# Altium integrated library Cypress USB Controllers.IntLib: 169 symbols (part 14 of 16)
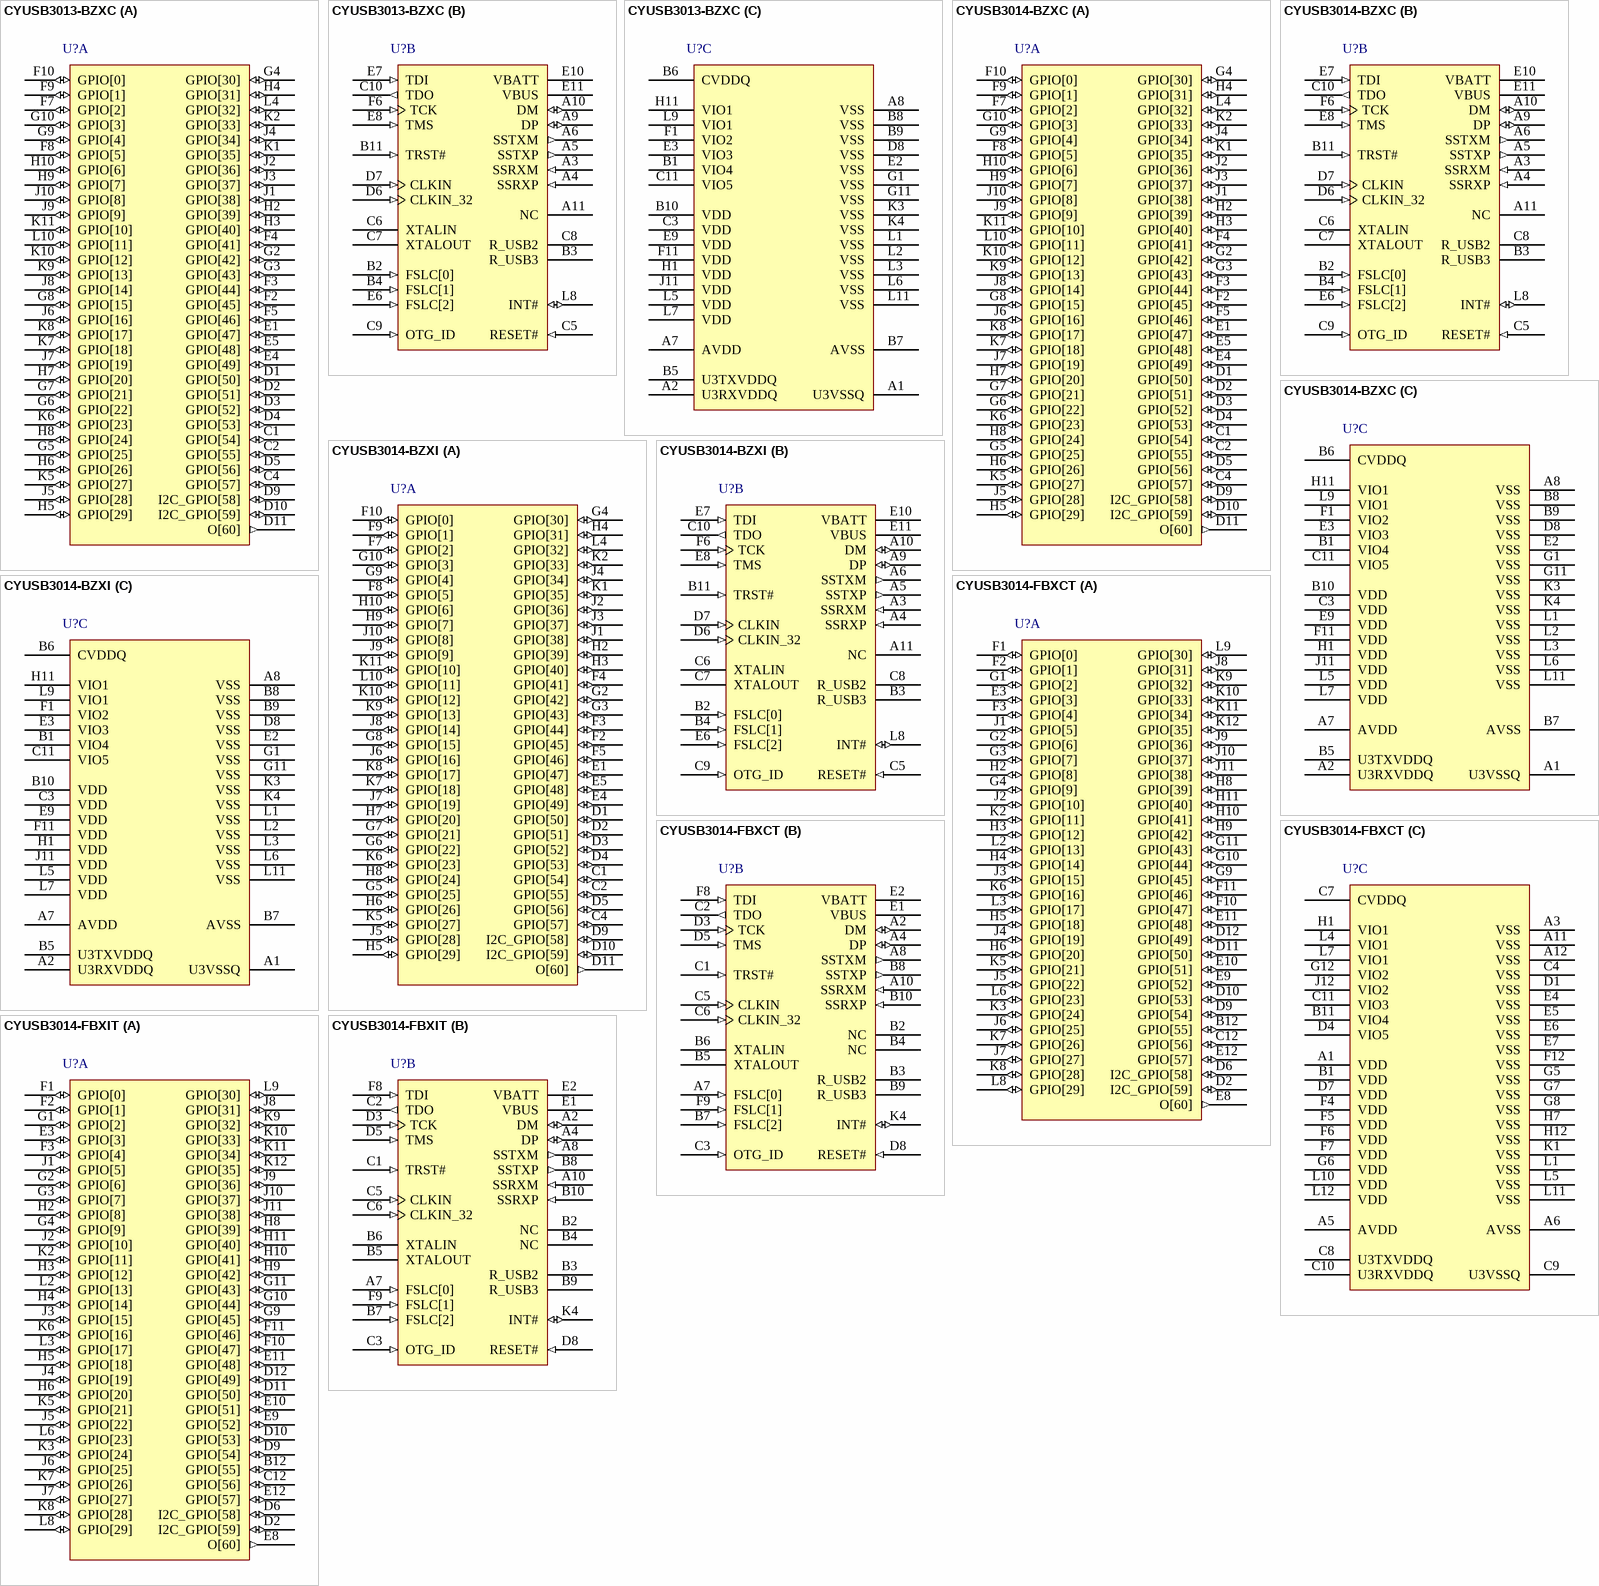
[diagram p35: symbols CYUSB3013-BZXC to CYUSB3014-FBXIT]

## CYUSB3014-BZXC
designator U?
EZ-USB(R) FX3: SuperSpeed USB Controller, 512 KB, 60 I/Os, 0 to 70 degC, 121-Pin FBGA (BZX121); Manufacturer: Cypress; PartNumber: CYUSB3014-BZXC; CPU Core: ARM926 EJ-S; Max. Operating Voltage (V): 1.25; Memory Architecture: SRAM; Memory Size (KB): 512; Min. Operating Voltage (V): 1.15; No. of I/Os: 60; DatasheetVersion: Rev. *O; PackageVersion: Rev. *D; PackageReference: BZX121; PackageDescription: 121-Ball FBGA, Body 10 x 10 mm, Pitch 0.8 mm; Supplier 1: Digi-Key; Supplier Part Number 1: 428-3182-ND; Supplier 2: Farnell; Supplier Part Number 2: 2355789; Supplier 3: Newark; Supplier Part Number 3: 54W7901; Supplier 4: Mouser; Supplier Part Number 4: 727-CYUSB3014-BZXC; Max. Operating Temp. (degreesC): 70; Min. Operating Temp. (degreesC): 0; RoHS: Pb-Free; Mounting Technology: Surface Mount; Code_JEDEC: PUB 95; ComponentLink1Description: Manufacturer URL; ComponentLink1URL: http://www.cypress.com/; ComponentLink2Description: Datasheet; ComponentLink2URL: http://www.cypress.com/?docID=49087; ComponentLink3Description: Package Specification; ComponentLink3URL: http://www.cypress.com/?docID=45795
footprint CYP-BZX121 (BGA, 121-Balls, Body 10x10mm, Pitch 0.8mm)
part A pins: C1 GPIO[54] (io), C2 GPIO[55] (io), C4 GPIO[57] (io), D1 GPIO[50] (io), D2 GPIO[51] (io), D3 GPIO[52] (io), D4 GPIO[53] (io), D5 GPIO[56] (io), D9 I2C_GPIO[58] (io), D10 I2C_GPIO[59] (io), D11 O[60] (out), E1 GPIO[47] (io), E4 GPIO[49] (io), E5 GPIO[48] (io), F2 GPIO[45] (io), F3 GPIO[44] (io), F4 GPIO[41] (io), F5 GPIO[46] (io), F7 GPIO[2] (io), F8 GPIO[5] (io), F9 GPIO[1] (io), F10 GPIO[0] (io), G2 GPIO[42] (io), G3 GPIO[43] (io), G4 GPIO[30] (io), G5 GPIO[25] (io), G6 GPIO[22] (io), G7 GPIO[21] (io), G8 GPIO[15] (io), G9 GPIO[4] (io), G10 GPIO[3] (io), H2 GPIO[39] (io), H3 GPIO[40] (io), H4 GPIO[31] (io), H5 GPIO[29] (io), H6 GPIO[26] (io), H7 GPIO[20] (io), H8 GPIO[24] (io), H9 GPIO[7] (io), H10 GPIO[6] (io), J1 GPIO[38] (io), J2 GPIO[36] (io), J3 GPIO[37] (io), J4 GPIO[34] (io), J5 GPIO[28] (io), J6 GPIO[16] (io), J7 GPIO[19] (io), J8 GPIO[14] (io), J9 GPIO[9] (io), J10 GPIO[8] (io), K1 GPIO[35] (io), K2 GPIO[33] (io), K5 GPIO[27] (io), K6 GPIO[23] (io), K7 GPIO[18] (io), K8 GPIO[17] (io), K9 GPIO[13] (io), K10 GPIO[12] (io), K11 GPIO[10] (io), L4 GPIO[32] (io), L10 GPIO[11] (io)
part B pins: A3 SSRXM (in), A4 SSRXP (in), A5 SSTXP (out), A6 SSTXM (out), A9 DP (io), A10 DM (io), A11 NC, B2 FSLC[0] (in), B3 R_USB3, B4 FSLC[1] (in), B11 TRST# (in), C5 RESET# (in), C6 XTALIN, C7 XTALOUT, C8 R_USB2, C9 OTG_ID (in), C10 TDO (out), D6 CLKIN_32 (in), D7 CLKIN (in), E6 FSLC[2] (in), E7 TDI (in), E8 TMS (in), E10 VBATT (power), E11 VBUS (power), F6 TCK (in), L8 INT# (io)
part C pins: A1 U3VSSQ (power), A2 U3RXVDDQ (power), A7 AVDD (power), A8 VSS (power), B1 VIO4 (power), B5 U3TXVDDQ (power), B6 CVDDQ (power), B7 AVSS (power), B8 VSS (power), B9 VSS (power), B10 VDD (power), C3 VDD (power), C11 VIO5 (power), D8 VSS (power), E2 VSS (power), E3 VIO3 (power), E9 VDD (power), F1 VIO2 (power), F11 VDD (power), G1 VSS (power), G11 VSS (power), H1 VDD (power), H11 VIO1 (power), J11 VDD (power), K3 VSS (power), K4 VSS (power), L1 VSS (power), L2 VSS (power), L3 VSS (power), L5 VDD (power), L6 VSS (power), L7 VDD (power), L9 VIO1 (power), L11 VSS (power)

## CYUSB3014-BZXI
designator U?
EZ-USB(R) FX3: SuperSpeed USB Controller, 512 KB, 60 I/Os, -40 to 85 degC, 121-Pin FBGA (BZX121); Manufacturer: Cypress; PartNumber: CYUSB3014-BZXI; CPU Core: ARM926 EJ-S; Max. Operating Voltage (V): 1.25; Memory Architecture: SRAM; Memory Size (KB): 512; Min. Operating Voltage (V): 1.15; No. of I/Os: 60; DatasheetVersion: Rev. *O; PackageVersion: Rev. *D; PackageReference: BZX121; PackageDescription: 121-Ball FBGA, Body 10 x 10 mm, Pitch 0.8 mm; Supplier 1: Digi-Key; Supplier Part Number 1: 428-3130-ND; Supplier 2: Farnell; Supplier Part Number 2: 2077374; Supplier 3: Newark; Supplier Part Number 3: 79T4687; Supplier 4: Newark; Supplier Part Number 4: 89T5318; Supplier 5: Mouser; Supplier Part Number 5: 727-CYUSB3014-BZXI; Max. Operating Temp. (degreesC): 85; Min. Operating Temp. (degreesC): -40; RoHS: Pb-Free; Mounting Technology: Surface Mount; Code_JEDEC: PUB 95; ComponentLink1Description: Manufacturer URL; ComponentLink1URL: http://www.cypress.com/; ComponentLink2Description: Datasheet; ComponentLink2URL: http://www.cypress.com/?docID=49087; ComponentLink3Description: Package Specification; ComponentLink3URL: http://www.cypress.com/?docID=45795
footprint CYP-BZX121 (BGA, 121-Balls, Body 10x10mm, Pitch 0.8mm)
part A pins: C1 GPIO[54] (io), C2 GPIO[55] (io), C4 GPIO[57] (io), D1 GPIO[50] (io), D2 GPIO[51] (io), D3 GPIO[52] (io), D4 GPIO[53] (io), D5 GPIO[56] (io), D9 I2C_GPIO[58] (io), D10 I2C_GPIO[59] (io), D11 O[60] (out), E1 GPIO[47] (io), E4 GPIO[49] (io), E5 GPIO[48] (io), F2 GPIO[45] (io), F3 GPIO[44] (io), F4 GPIO[41] (io), F5 GPIO[46] (io), F7 GPIO[2] (io), F8 GPIO[5] (io), F9 GPIO[1] (io), F10 GPIO[0] (io), G2 GPIO[42] (io), G3 GPIO[43] (io), G4 GPIO[30] (io), G5 GPIO[25] (io), G6 GPIO[22] (io), G7 GPIO[21] (io), G8 GPIO[15] (io), G9 GPIO[4] (io), G10 GPIO[3] (io), H2 GPIO[39] (io), H3 GPIO[40] (io), H4 GPIO[31] (io), H5 GPIO[29] (io), H6 GPIO[26] (io), H7 GPIO[20] (io), H8 GPIO[24] (io), H9 GPIO[7] (io), H10 GPIO[6] (io), J1 GPIO[38] (io), J2 GPIO[36] (io), J3 GPIO[37] (io), J4 GPIO[34] (io), J5 GPIO[28] (io), J6 GPIO[16] (io), J7 GPIO[19] (io), J8 GPIO[14] (io), J9 GPIO[9] (io), J10 GPIO[8] (io), K1 GPIO[35] (io), K2 GPIO[33] (io), K5 GPIO[27] (io), K6 GPIO[23] (io), K7 GPIO[18] (io), K8 GPIO[17] (io), K9 GPIO[13] (io), K10 GPIO[12] (io), K11 GPIO[10] (io), L4 GPIO[32] (io), L10 GPIO[11] (io)
part B pins: A3 SSRXM (in), A4 SSRXP (in), A5 SSTXP (out), A6 SSTXM (out), A9 DP (io), A10 DM (io), A11 NC, B2 FSLC[0] (in), B3 R_USB3, B4 FSLC[1] (in), B11 TRST# (in), C5 RESET# (in), C6 XTALIN, C7 XTALOUT, C8 R_USB2, C9 OTG_ID (in), C10 TDO (out), D6 CLKIN_32 (in), D7 CLKIN (in), E6 FSLC[2] (in), E7 TDI (in), E8 TMS (in), E10 VBATT (power), E11 VBUS (power), F6 TCK (in), L8 INT# (io)
part C pins: A1 U3VSSQ (power), A2 U3RXVDDQ (power), A7 AVDD (power), A8 VSS (power), B1 VIO4 (power), B5 U3TXVDDQ (power), B6 CVDDQ (power), B7 AVSS (power), B8 VSS (power), B9 VSS (power), B10 VDD (power), C3 VDD (power), C11 VIO5 (power), D8 VSS (power), E2 VSS (power), E3 VIO3 (power), E9 VDD (power), F1 VIO2 (power), F11 VDD (power), G1 VSS (power), G11 VSS (power), H1 VDD (power), H11 VIO1 (power), J11 VDD (power), K3 VSS (power), K4 VSS (power), L1 VSS (power), L2 VSS (power), L3 VSS (power), L5 VDD (power), L6 VSS (power), L7 VDD (power), L9 VIO1 (power), L11 VSS (power)

## CYUSB3014-FBXCT
designator U?
EZ-USB(R) FX3: SuperSpeed USB Controller, 512 KB, 60 I/Os, 0 to 70 degC, 131-Pin WLCSP (FBX131), Tape and Reel; Manufacturer: Cypress; PartNumber: CYUSB3014-FBXCT; CPU Core: ARM926 EJ-S; Max. Operating Voltage (V): 1.25; Memory Architecture: SRAM; Memory Size (KB): 512; Min. Operating Voltage (V): 1.15; No. of I/Os: 60; DatasheetVersion: Rev. *O; PackageVersion: Rev. *C; PackageReference: FBX131; PackageDescription: 131-Ball Wafer Level Chip Scale Package, Body 5.099 x 4.695 mm, Pitch 0.4 mm; Supplier 1: Digi-Key; Supplier Part Number 1: CYUSB3014-FBXCT-ND; Supplier 2: Newark; Supplier Part Number 2: 08X4451; Supplier 3: Mouser; Supplier Part Number 3: 727-CYUSB3014-FBXCT; Max. Operating Temp. (degreesC): 70; Min. Operating Temp. (degreesC): 0; Packing: Tape and Reel; RoHS: Pb-Free; Mounting Technology: Surface Mount; Code_JEDEC: Publication 95; ComponentLink1Description: Manufacturer URL; ComponentLink1URL: http://www.cypress.com/; ComponentLink2Description: Datasheet; ComponentLink2URL: http://www.cypress.com/?docID=49087; ComponentLink3Description: Package Specification; ComponentLink3URL: http://www.cypress.com/?docID=46736
footprint CYP-FBX131 (BGA, 131-Balls, Body 5.1x4.7mm, Pitch 0.4mm)
part A pins: B12 GPIO[55] (io), C12 GPIO[56] (io), D2 I2C_GPIO[59] (io) "I2C_SDA", D6 I2C_GPIO[58] (io) "I2C_SCL", D9 GPIO[54] (io), D10 GPIO[53] (io), D11 GPIO[50] (io), D12 GPIO[49] (io), E3 GPIO[3] (io), E8 O[60] (out), E9 GPIO[52] (io), E10 GPIO[51] (io), E11 GPIO[48] (io), E12 GPIO[57] (io), F1 GPIO[0] (io), F2 GPIO[1] (io), F3 GPIO[4] (io), F10 GPIO[47] (io), F11 GPIO[46] (io), G1 GPIO[2] (io), G2 GPIO[6] (io), G3 GPIO[7] (io), G4 GPIO[9] (io), G9 GPIO[45] (io), G10 GPIO[44] (io), G11 GPIO[43] (io), H2 GPIO[8] (io), H3 GPIO[12] (io), H4 GPIO[14] (io), H5 GPIO[18] (io), H6 GPIO[20] (io), H8 GPIO[39] (io), H9 GPIO[42] (io), H10 GPIO[41] (io), H11 GPIO[40] (io), J1 GPIO[5] (io), J2 GPIO[10] (io), J3 GPIO[15] (io), J4 GPIO[19] (io), J5 GPIO[22] (io), J6 GPIO[25] (io), J7 GPIO[27] (io), J8 GPIO[31] (io), J9 GPIO[36] (io), J10 GPIO[37] (io), J11 GPIO[38] (io), K2 GPIO[11] (io), K3 GPIO[24] (io), K5 GPIO[21] (io), K6 GPIO[16] (io), K7 GPIO[26] (io), K8 GPIO[28] (io), K9 GPIO[32] (io), K10 GPIO[33] (io), K11 GPIO[34] (io), K12 GPIO[35] (io), L2 GPIO[13] (io), L3 GPIO[17] (io), L6 GPIO[23] (io), L8 GPIO[29] (io), L9 GPIO[30] (io)
part B pins: A2 DM (io) "D-", A4 DP (io) "D+", A7 FSLC[0] (in), A8 SSTXM (out) "SSTX", A10 SSRXM (in) "SSRX", B2 NC "No connect", B3 R_USB2 "Precision resistor for USB 2.0 (Connect a 6.04 kohm +/-1% resistor between this pin and GND)", B4 NC "No connect", B5 XTALOUT, B6 XTALIN, B7 FSLC[2] (in), B8 SSTXP (out) "SSTX+", B9 R_USB3 "Precision resistor for USB 3.0 (Connect a 200 ohm +/-1% resistor between this pin and GND)", B10 SSRXP (in) "SSRX+", C1 TRST# (in), C2 TDO (out), C3 OTG_ID (in) "Charger detect output", C5 CLKIN (in), C6 CLKIN_32 (in), D3 TCK (in), D5 TMS (in), D8 RESET# (in), E1 VBUS (power), E2 VBATT (power), F8 TDI (in), F9 FSLC[1] (in), K4 INT# (io)
part C pins: A1 VDD (power), A3 VSS (power), A5 AVDD (power), A6 AVSS (power), A11 VSS (power), A12 VSS (power), B1 VDD (power), B11 VIO4 (power), C4 VSS (power), C7 CVDDQ (power), C8 U3TXVDDQ (power), C9 U3VSSQ (power), C10 U3RXVDDQ (power), C11 VIO3 (power), D1 VSS (power), D4 VIO5 (power), D7 VDD (power), E4 VSS (power), E5 VSS (power), E6 VSS (power), E7 VSS (power), F4 VDD (power), F5 VDD (power), F6 VDD (power), F7 VDD (power), F12 VSS (power), G5 VSS (power), G6 VDD (power), G7 VSS (power), G8 VSS (power), G12 VIO2 (power), H1 VIO1 (power), H7 VSS (power), H12 VSS (power), J12 VIO2 (power), K1 VSS (power), L1 VSS (power), L4 VIO1 (power), L5 VSS (power), L7 VIO1 (power), L10 VDD (power), L11 VSS (power), L12 VDD (power)

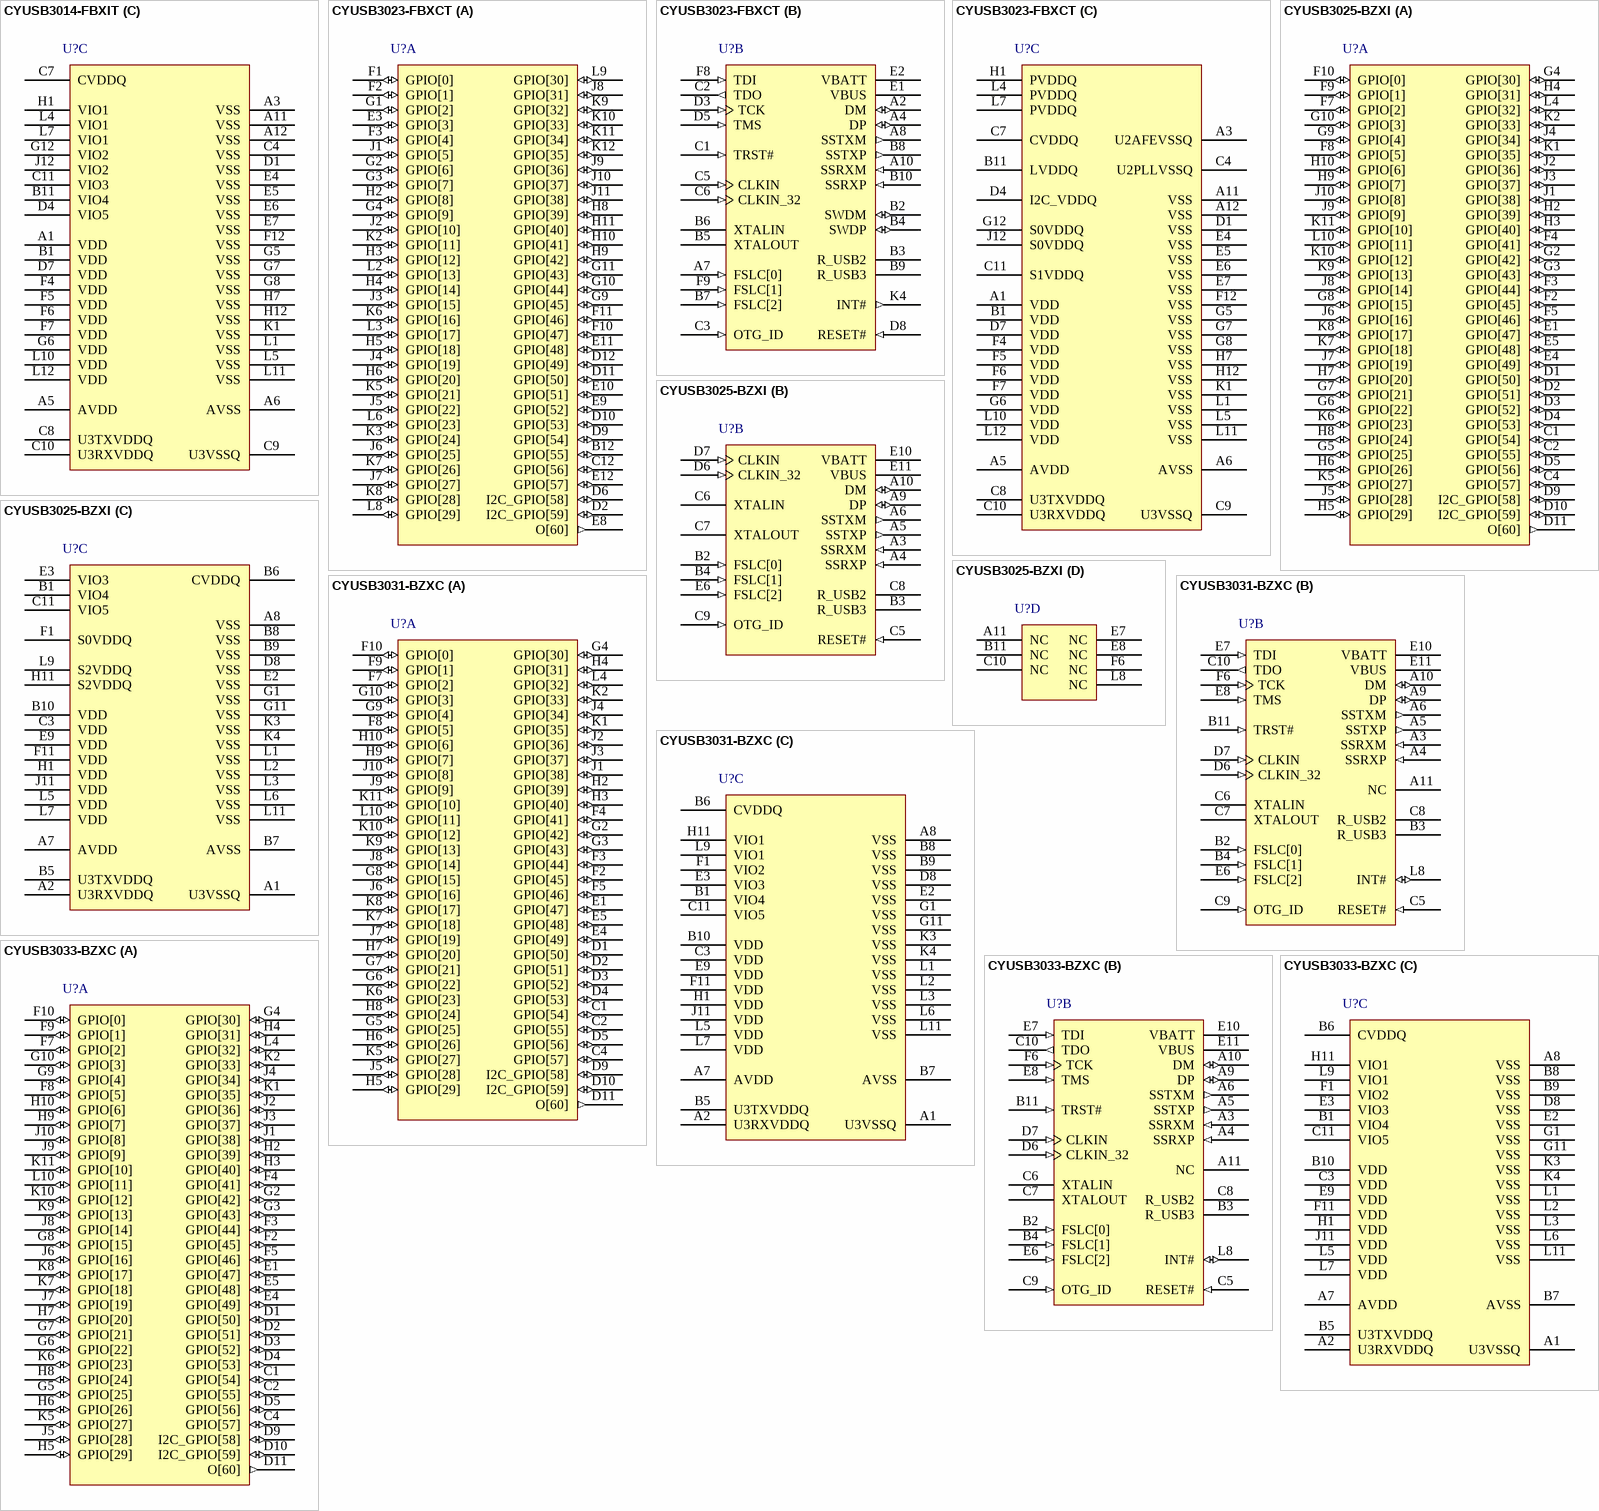
[diagram p16: symbols CYUSB3014-FBXIT to CYUSB3033-BZXC]

## CYUSB3014-FBXIT
designator U?
EZ-USB(R) FX3: SuperSpeed USB Controller, 512 KB, 60 I/Os, -40 to 85 degC, 131-Pin WLCSP (FBX131), Tape and Reel; Manufacturer: Cypress; PartNumber: CYUSB3014-FBXIT; CPU Core: ARM926 EJ-S; Max. Operating Voltage (V): 1.25; Memory Architecture: SRAM; Memory Size (KB): 512; Min. Operating Voltage (V): 1.15; No. of I/Os: 60; DatasheetVersion: Rev. *O; PackageVersion: Rev. *C; PackageReference: FBX131; PackageDescription: 131-Ball Wafer Level Chip Scale Package, Body 5.099 x 4.695 mm, Pitch 0.4 mm; Supplier 1: Digi-Key; Supplier Part Number 1: CYUSB3014-FBXIT-ND; Supplier 2: Newark; Supplier Part Number 2: 08X4452; Supplier 3: Mouser; Supplier Part Number 3: 727-CYUSB3014-FBXIT; Max. Operating Temp. (degreesC): 85; Min. Operating Temp. (degreesC): -40; Packing: Tape and Reel; RoHS: Pb-Free; Mounting Technology: Surface Mount; Code_JEDEC: Publication 95; ComponentLink1Description: Manufacturer URL; ComponentLink1URL: http://www.cypress.com/; ComponentLink2Description: Datasheet; ComponentLink2URL: http://www.cypress.com/?docID=49087; ComponentLink3Description: Package Specification; ComponentLink3URL: http://www.cypress.com/?docID=46736
footprint CYP-FBX131 (BGA, 131-Balls, Body 5.1x4.7mm, Pitch 0.4mm)
part A pins: B12 GPIO[55] (io), C12 GPIO[56] (io), D2 I2C_GPIO[59] (io) "I2C_SDA", D6 I2C_GPIO[58] (io) "I2C_SCL", D9 GPIO[54] (io), D10 GPIO[53] (io), D11 GPIO[50] (io), D12 GPIO[49] (io), E3 GPIO[3] (io), E8 O[60] (out), E9 GPIO[52] (io), E10 GPIO[51] (io), E11 GPIO[48] (io), E12 GPIO[57] (io), F1 GPIO[0] (io), F2 GPIO[1] (io), F3 GPIO[4] (io), F10 GPIO[47] (io), F11 GPIO[46] (io), G1 GPIO[2] (io), G2 GPIO[6] (io), G3 GPIO[7] (io), G4 GPIO[9] (io), G9 GPIO[45] (io), G10 GPIO[44] (io), G11 GPIO[43] (io), H2 GPIO[8] (io), H3 GPIO[12] (io), H4 GPIO[14] (io), H5 GPIO[18] (io), H6 GPIO[20] (io), H8 GPIO[39] (io), H9 GPIO[42] (io), H10 GPIO[41] (io), H11 GPIO[40] (io), J1 GPIO[5] (io), J2 GPIO[10] (io), J3 GPIO[15] (io), J4 GPIO[19] (io), J5 GPIO[22] (io), J6 GPIO[25] (io), J7 GPIO[27] (io), J8 GPIO[31] (io), J9 GPIO[36] (io), J10 GPIO[37] (io), J11 GPIO[38] (io), K2 GPIO[11] (io), K3 GPIO[24] (io), K5 GPIO[21] (io), K6 GPIO[16] (io), K7 GPIO[26] (io), K8 GPIO[28] (io), K9 GPIO[32] (io), K10 GPIO[33] (io), K11 GPIO[34] (io), K12 GPIO[35] (io), L2 GPIO[13] (io), L3 GPIO[17] (io), L6 GPIO[23] (io), L8 GPIO[29] (io), L9 GPIO[30] (io)
part B pins: A2 DM (io) "D-", A4 DP (io) "D+", A7 FSLC[0] (in), A8 SSTXM (out) "SSTX", A10 SSRXM (in) "SSRX", B2 NC "No connect", B3 R_USB2 "Precision resistor for USB 2.0 (Connect a 6.04 kohm +/-1% resistor between this pin and GND)", B4 NC "No connect", B5 XTALOUT, B6 XTALIN, B7 FSLC[2] (in), B8 SSTXP (out) "SSTX+", B9 R_USB3 "Precision resistor for USB 3.0 (Connect a 200 ohm +/-1% resistor between this pin and GND)", B10 SSRXP (in) "SSRX+", C1 TRST# (in), C2 TDO (out), C3 OTG_ID (in) "Charger detect output", C5 CLKIN (in), C6 CLKIN_32 (in), D3 TCK (in), D5 TMS (in), D8 RESET# (in), E1 VBUS (power), E2 VBATT (power), F8 TDI (in), F9 FSLC[1] (in), K4 INT# (io)
part C pins: A1 VDD (power), A3 VSS (power), A5 AVDD (power), A6 AVSS (power), A11 VSS (power), A12 VSS (power), B1 VDD (power), B11 VIO4 (power), C4 VSS (power), C7 CVDDQ (power), C8 U3TXVDDQ (power), C9 U3VSSQ (power), C10 U3RXVDDQ (power), C11 VIO3 (power), D1 VSS (power), D4 VIO5 (power), D7 VDD (power), E4 VSS (power), E5 VSS (power), E6 VSS (power), E7 VSS (power), F4 VDD (power), F5 VDD (power), F6 VDD (power), F7 VDD (power), F12 VSS (power), G5 VSS (power), G6 VDD (power), G7 VSS (power), G8 VSS (power), G12 VIO2 (power), H1 VIO1 (power), H7 VSS (power), H12 VSS (power), J12 VIO2 (power), K1 VSS (power), L1 VSS (power), L4 VIO1 (power), L5 VSS (power), L7 VIO1 (power), L10 VDD (power), L11 VSS (power), L12 VDD (power)

## CYUSB3023-FBXCT
designator U?
SD3(TM) USB and Mass Storage Peripheral Controller, 512 KB, 60 I/Os, 1.15 to 1.25 V, 0 to 70 degC, 131-Pin WLCSP (FBX131), Tape and Reel; Manufacturer: Cypress; PartNumber: CYUSB3023-FBXCT; CPU Core: ARM926 EJ-S; Max. Operating Voltage (V): 1.25; Memory Architecture: SRAM; Memory Size (KB): 512; Min. Operating Voltage (V): 1.15; No. of I/Os: 60; DatasheetVersion: Rev. *I; PackageVersion: Rev. *C; PackageReference: FBX131; PackageDescription: 131-Ball Wafer Level Chip Scale Package, Body 5.099 x 4.695 mm, Pitch 0.4 mm; Supplier 1: Digi-Key; Supplier Part Number 1: CYUSB3023-FBXCT-ND; Supplier 2: Newark; Supplier Part Number 2: 08X4453; Supplier 3: Mouser; Supplier Part Number 3: 727-CYUSB3023-FBXCT; Max. Operating Temp. (degreesC): 70; Min. Operating Temp. (degreesC): 0; Packing: Tape and Reel; RoHS: Pb-Free; Mounting Technology: Surface Mount; Code_JEDEC: Publication 95; ComponentLink1Description: Manufacturer URL; ComponentLink1URL: http://www.cypress.com/; ComponentLink2Description: Datasheet; ComponentLink2URL: http://www.cypress.com/?docID=46736; ComponentLink3Description: Package Specification; ComponentLink3URL: http://www.cypress.com/?docID=46736
footprint CYP-FBX131 (BGA, 131-Balls, Body 5.1x4.7mm, Pitch 0.4mm)
part A pins: B12 GPIO[55] (io), C12 GPIO[56] (io), D2 I2C_GPIO[59] (io) "SDA (Serial Data) for I2C Bus Interface", D6 I2C_GPIO[58] (io) "SCL (Serial Clock) for I2C Bus Interface", D9 GPIO[54] (io), D10 GPIO[53] (io), D11 GPIO[50] (io), D12 GPIO[49] (io), E3 GPIO[3] (io), E8 O[60] (out) "Charger Detect Output", E9 GPIO[52] (io), E10 GPIO[51] (io), E11 GPIO[48] (io), E12 GPIO[57] (io), F1 GPIO[0] (io), F2 GPIO[1] (io), F3 GPIO[4] (io), F10 GPIO[47] (io), F11 GPIO[46] (io), G1 GPIO[2] (io), G2 GPIO[6] (io), G3 GPIO[7] (io), G4 GPIO[9] (io), G9 GPIO[45] (io), G10 GPIO[44] (io), G11 GPIO[43] (io), H2 GPIO[8] (io), H3 GPIO[12] (io), H4 GPIO[14] (io), H5 GPIO[18] (io), H6 GPIO[20] (io), H8 GPIO[39] (io), H9 GPIO[42] (io), H10 GPIO[41] (io), H11 GPIO[40] (io), J1 GPIO[5] (io), J2 GPIO[10] (io), J3 GPIO[15] (io), J4 GPIO[19] (io), J5 GPIO[22] (io), J6 GPIO[25] (io), J7 GPIO[27] (io), J8 GPIO[31] (io), J9 GPIO[36] (io), J10 GPIO[37] (io), J11 GPIO[38] (io), K2 GPIO[11] (io), K3 GPIO[24] (io), K5 GPIO[21] (io), K6 GPIO[16] (io), K7 GPIO[26] (io), K8 GPIO[28] (io), K9 GPIO[32] (io), K10 GPIO[33] (io), K11 GPIO[34] (io), K12 GPIO[35] (io), L2 GPIO[13] (io), L3 GPIO[17] (io), L6 GPIO[23] (io), L8 GPIO[29] (io), L9 GPIO[30] (io)
part B pins: A2 DM (io) "USB (HS/FS) Data Minus", A4 DP (io) "USB (HS/FS) Data Plus", A7 FSLC[0] (in) "Frequency Select 0", A8 SSTXM (out) "USB 3.0 SuperSpeed Transmit Minus", A10 SSRXM (in) "USB 3.0 SuperSpeed Receive Minus", B2 SWDM (io) "USB (HS/FS) Switch Interface Data Minus", B3 R_USB2 "Precision Resistor for USB 2.0 (Connect a 6.04 kohm +/- 1% resistor between this pin and GND)", B4 SWDP (io) "USB (HS/FS) Switch Interface Data Plus", B5 XTALOUT "Crystal Oscillator Output", B6 XTALIN "Crystal Oscillator Input", B7 FSLC[2] (in) "Frequency Select 2", B8 SSTXP (out) "USB 3.0 SuperSpeed Transmit Plus", B9 R_USB3 "Precision Resistor for USB 3.0 (Connect a 200ohm +/- 1% resistor between this pin and GND)", B10 SSRXP (in) "USB 3.0 SuperSpeed Receive Plus", C1 TRST# (in) "TRST (Test Reset) for JTAG Interface", C2 TDO (out) "TDO (Test Data Out) for JTAG Interface", C3 OTG_ID (in) "USB OTG Identification", C5 CLKIN (in) "External Clock Input", C6 CLKIN_32 (in) "32.76-kHz Clock Input for Watchdog Timer", D3 TCK (in) "TCK (Test Clock) for JTAG Interface", D5 TMS (in) "TMS (Test Mode Select) for JTAG Interface", D8 RESET# (in), E1 VBUS (power) "USB Supply Voltage Input", E2 VBATT (power) "USB Supply Voltage Input", F8 TDI (in) "TDI (Test Data In) for JTAG Interface", F9 FSLC[1] (in) "Frequency Select 1", K4 INT# (out)
part C pins: A1 VDD (power) "Core Supply Voltage Input", A3 U2AFEVSSQ (power) "GND", A5 AVDD (power) "Analog Supply Voltage Input", A6 AVSS (power) "Analog GND", A11 VSS (power) "GND", A12 VSS (power) "GND", B1 VDD (power) "Core Supply Voltage Input", B11 LVDDQ (power) "Low Performance Peripherals Supply Voltage Input", C4 U2PLLVSSQ (power) "USB2 Regulator GND", C7 CVDDQ (power) "Clock Supply Voltage Input", C8 U3TXVDDQ (power) "USB3 1.2V Supply Voltage", C9 U3VSSQ (power) "GND", C10 U3RXVDDQ (power) "USB3 1.2V Supply Voltage", C11 S1VDDQ (power) "S1-Port Supply Voltage Input", D1 VSS (power) "GND", D4 I2C_VDDQ (power) "I2C and JTAG Supply Voltage Input", D7 VDD (power) "Core Supply Voltage Input", E4 VSS (power) "GND", E5 VSS (power) "GND", E6 VSS (power) "GND", E7 VSS (power) "GND", F4 VDD (power) "Core Supply Voltage Input", F5 VDD (power) "Core Supply Voltage Input", F6 VDD (power) "Core Supply Voltage Input", F7 VDD (power) "Core Supply Voltage Input", F12 VSS (power) "GND", G5 VSS (power) "GND", G6 VDD (power) "Core Supply Voltage Input", G7 VSS (power) "GND", G8 VSS (power) "GND", G12 S0VDDQ (power) "S0-Port Supply Voltage Input", H1 PVDDQ (power) "P-Port Supply Voltage Input", H7 VSS (power) "GND", H12 VSS (power) "GND", J12 S0VDDQ (power) "S0-Port Supply Voltage Input", K1 VSS (power) "GND", L1 VSS (power) "GND", L4 PVDDQ (power) "P-Port Supply Voltage Input", L5 VSS (power) "GND", L7 PVDDQ (power) "P-Port Supply Voltage Input", L10 VDD (power) "Core Supply Voltage Input", L11 VSS (power) "GND", L12 VDD (power) "Core Supply Voltage Input"

## CYUSB3025-BZXI
designator U?
SD3(TM) USB and Mass Storage Peripheral Controller, 512 KB, 60 I/Os, 1.15 to 1.25 V, -40 to 85 degC, 121-Pin BGA (BZX121), Tube; Manufacturer: Cypress; PartNumber: CYUSB3025-BZXI; CPU Core: ARM926 EJ-S; Max. Operating Voltage (V): 1.25; Memory Architecture: SRAM; Memory Size (KB): 512; Min. Operating Voltage (V): 1.15; No. of I/Os: 60; DatasheetVersion: Rev. *I; PackageVersion: Rev. *D; PackageReference: BZX121; PackageDescription: 121-Ball FBGA, Body 10 x 10 mm, Pitch 0.8 mm; Supplier 1: Digi-Key; Supplier Part Number 1: CYUSB3025-BZXI-ND; Supplier 2: Newark; Supplier Part Number 2: 24X0903; Supplier 3: Mouser; Supplier Part Number 3: 727-CYUSB3025-BZXI; Max. Operating Temp. (degreesC): 85; Min. Operating Temp. (degreesC): -40; Packing: Tube; RoHS: Pb-Free; Mounting Technology: Surface Mount; Code_JEDEC: PUB 95; ComponentLink1Description: Manufacturer URL; ComponentLink1URL: http://www.cypress.com/; ComponentLink2Description: Datasheet; ComponentLink2URL: http://www.cypress.com/?docID=46736; ComponentLink3Description: Package Specification; ComponentLink3URL: http://www.cypress.com/?docID=45795
footprint CYP-BZX121 (BGA, 121-Balls, Body 10x10mm, Pitch 0.8mm)
part A pins: C1 GPIO[54] (io), C2 GPIO[55] (io), C4 GPIO[57] (io), D1 GPIO[50] (io), D2 GPIO[51] (io), D3 GPIO[52] (io), D4 GPIO[53] (io), D5 GPIO[56] (io), D9 I2C_GPIO[58] (io), D10 I2C_GPIO[59] (io), D11 O[60] (out), E1 GPIO[47] (io), E4 GPIO[49] (io), E5 GPIO[48] (io), F2 GPIO[45] (io), F3 GPIO[44] (io), F4 GPIO[41] (io), F5 GPIO[46] (io), F7 GPIO[2] (io), F8 GPIO[5] (io), F9 GPIO[1] (io), F10 GPIO[0] (io), G2 GPIO[42] (io), G3 GPIO[43] (io), G4 GPIO[30] (io), G5 GPIO[25] (io), G6 GPIO[22] (io), G7 GPIO[21] (io), G8 GPIO[15] (io), G9 GPIO[4] (io), G10 GPIO[3] (io), H2 GPIO[39] (io), H3 GPIO[40] (io), H4 GPIO[31] (io), H5 GPIO[29] (io), H6 GPIO[26] (io), H7 GPIO[20] (io), H8 GPIO[24] (io), H9 GPIO[7] (io), H10 GPIO[6] (io), J1 GPIO[38] (io), J2 GPIO[36] (io), J3 GPIO[37] (io), J4 GPIO[34] (io), J5 GPIO[28] (io), J6 GPIO[16] (io), J7 GPIO[19] (io), J8 GPIO[14] (io), J9 GPIO[9] (io), J10 GPIO[8] (io), K1 GPIO[35] (io), K2 GPIO[33] (io), K5 GPIO[27] (io), K6 GPIO[23] (io), K7 GPIO[18] (io), K8 GPIO[17] (io), K9 GPIO[13] (io), K10 GPIO[12] (io), K11 GPIO[10] (io), L4 GPIO[32] (io), L10 GPIO[11] (io)
part B pins: A3 SSRXM (in), A4 SSRXP (in), A5 SSTXP (out), A6 SSTXM (out), A9 DP (io), A10 DM (io), B2 FSLC[0] (in), B3 R_USB3, B4 FSLC[1] (in), C5 RESET# (in), C6 XTALIN, C7 XTALOUT, C8 R_USB2, C9 OTG_ID (in), D6 CLKIN_32 (in), D7 CLKIN (in), E6 FSLC[2] (in), E10 VBATT (power), E11 VBUS (power)
part C pins: A1 U3VSSQ (power), A2 U3RXVDDQ (power), A7 AVDD (power), A8 VSS (power), B1 VIO4 (power), B5 U3TXVDDQ (power), B6 CVDDQ (power), B7 AVSS (power), B8 VSS (power), B9 VSS (power), B10 VDD (power), C3 VDD (power), C11 VIO5 (power), D8 VSS (power), E2 VSS (power), E3 VIO3 (power), E9 VDD (power), F1 S0VDDQ (power), F11 VDD (power), G1 VSS (power), G11 VSS (power), H1 VDD (power), H11 S2VDDQ (power), J11 VDD (power), K3 VSS (power), K4 VSS (power), L1 VSS (power), L2 VSS (power), L3 VSS (power), L5 VDD (power), L6 VSS (power), L7 VDD (power), L9 S2VDDQ (power), L11 VSS (power)
part D pins: A11 NC, B11 NC, C10 NC, E7 NC, E8 NC, F6 NC, L8 NC

## CYUSB3031-BZXC
designator U?
EZ-USB(R) FX3S SuperSpeed USB Controller, 256 KB, 60 I/Os, 1.15 to 1.25 V, 0 to 70 degC, 121-Pin BGA (BZX121); Manufacturer: Cypress; PartNumber: CYUSB3031-BZXC; CPU Core: ARM926 EJ-S; Max. Operating Voltage (V): 1.25; Memory Architecture: SRAM; Memory Size (KB): 256; Min. Operating Voltage (V): 1.15; No. of I/Os: 60; DatasheetVersion: Rev. *C; PackageVersion: Rev. *D; PackageReference: BZX121; PackageDescription: 121-Ball FBGA, Body 10 x 10 mm, Pitch 0.8 mm; Supplier 1: Digi-Key; Supplier Part Number 1: CYUSB3031-BZXC-ND; Supplier 2: Newark; Supplier Part Number 2: 24X0904; Supplier 3: Mouser; Supplier Part Number 3: 727-CYUSB3031-BZXC; Max. Operating Temp. (degreesC): 70; Min. Operating Temp. (degreesC): 0; RoHS: Pb-Free; Mounting Technology: Surface Mount; Code_JEDEC: PUB 95; ComponentLink1Description: Manufacturer URL; ComponentLink1URL: http://www.cypress.com/; ComponentLink2Description: Datasheet; ComponentLink2URL: http://www.cypress.com/?docID=45991; ComponentLink3Description: Package Specification; ComponentLink3URL: http://www.cypress.com/?docID=45795
footprint CYP-BZX121 (BGA, 121-Balls, Body 10x10mm, Pitch 0.8mm)
part A pins: C1 GPIO[54] (io), C2 GPIO[55] (io), C4 GPIO[57] (io), D1 GPIO[50] (io), D2 GPIO[51] (io), D3 GPIO[52] (io), D4 GPIO[53] (io), D5 GPIO[56] (io), D9 I2C_GPIO[58] (io), D10 I2C_GPIO[59] (io), D11 O[60] (out), E1 GPIO[47] (io), E4 GPIO[49] (io), E5 GPIO[48] (io), F2 GPIO[45] (io), F3 GPIO[44] (io), F4 GPIO[41] (io), F5 GPIO[46] (io), F7 GPIO[2] (io), F8 GPIO[5] (io), F9 GPIO[1] (io), F10 GPIO[0] (io), G2 GPIO[42] (io), G3 GPIO[43] (io), G4 GPIO[30] (io), G5 GPIO[25] (io), G6 GPIO[22] (io), G7 GPIO[21] (io), G8 GPIO[15] (io), G9 GPIO[4] (io), G10 GPIO[3] (io), H2 GPIO[39] (io), H3 GPIO[40] (io), H4 GPIO[31] (io), H5 GPIO[29] (io), H6 GPIO[26] (io), H7 GPIO[20] (io), H8 GPIO[24] (io), H9 GPIO[7] (io), H10 GPIO[6] (io), J1 GPIO[38] (io), J2 GPIO[36] (io), J3 GPIO[37] (io), J4 GPIO[34] (io), J5 GPIO[28] (io), J6 GPIO[16] (io), J7 GPIO[19] (io), J8 GPIO[14] (io), J9 GPIO[9] (io), J10 GPIO[8] (io), K1 GPIO[35] (io), K2 GPIO[33] (io), K5 GPIO[27] (io), K6 GPIO[23] (io), K7 GPIO[18] (io), K8 GPIO[17] (io), K9 GPIO[13] (io), K10 GPIO[12] (io), K11 GPIO[10] (io), L4 GPIO[32] (io), L10 GPIO[11] (io)
part B pins: A3 SSRXM (in), A4 SSRXP (in), A5 SSTXP (out), A6 SSTXM (out), A9 DP (io), A10 DM (io), A11 NC, B2 FSLC[0] (in), B3 R_USB3, B4 FSLC[1] (in), B11 TRST# (in), C5 RESET# (in), C6 XTALIN, C7 XTALOUT, C8 R_USB2, C9 OTG_ID (in), C10 TDO (out), D6 CLKIN_32 (in), D7 CLKIN (in), E6 FSLC[2] (in), E7 TDI (in), E8 TMS (in), E10 VBATT (power), E11 VBUS (power), F6 TCK (in), L8 INT# (io)
part C pins: A1 U3VSSQ (power), A2 U3RXVDDQ (power), A7 AVDD (power), A8 VSS (power), B1 VIO4 (power), B5 U3TXVDDQ (power), B6 CVDDQ (power), B7 AVSS (power), B8 VSS (power), B9 VSS (power), B10 VDD (power), C3 VDD (power), C11 VIO5 (power), D8 VSS (power), E2 VSS (power), E3 VIO3 (power), E9 VDD (power), F1 VIO2 (power), F11 VDD (power), G1 VSS (power), G11 VSS (power), H1 VDD (power), H11 VIO1 (power), J11 VDD (power), K3 VSS (power), K4 VSS (power), L1 VSS (power), L2 VSS (power), L3 VSS (power), L5 VDD (power), L6 VSS (power), L7 VDD (power), L9 VIO1 (power), L11 VSS (power)

## CYUSB3033-BZXC
designator U?
EZ-USB(R) FX3S SuperSpeed USB Controller, 512 KB, 60 I/Os, 1.15 to 1.25 V, 0 to 70 degC, 121-Pin BGA (BZX121); Manufacturer: Cypress; PartNumber: CYUSB3033-BZXC; CPU Core: ARM926 EJ-S; Max. Operating Voltage (V): 1.25; Memory Architecture: SRAM; Memory Size (KB): 512; Min. Operating Voltage (V): 1.15; No. of I/Os: 60; DatasheetVersion: Rev. *C; PackageVersion: Rev. *D; PackageReference: BZX121; PackageDescription: 121-Ball FBGA, Body 10 x 10 mm, Pitch 0.8 mm; Supplier 1: Digi-Key; Supplier Part Number 1: CYUSB3033-BZXC-ND; Supplier 2: Newark; Supplier Part Number 2: 24X0905; Supplier 3: Mouser; Supplier Part Number 3: 727-CYUSB3033-BZXC; Max. Operating Temp. (degreesC): 70; Min. Operating Temp. (degreesC): 0; RoHS: Pb-Free; Mounting Technology: Surface Mount; Code_JEDEC: PUB 95; ComponentLink1Description: Manufacturer URL; ComponentLink1URL: http://www.cypress.com/; ComponentLink2Description: Datasheet; ComponentLink2URL: http://www.cypress.com/?docID=45991; ComponentLink3Description: Package Specification; ComponentLink3URL: http://www.cypress.com/?docID=45795
footprint CYP-BZX121 (BGA, 121-Balls, Body 10x10mm, Pitch 0.8mm)
part A pins: C1 GPIO[54] (io), C2 GPIO[55] (io), C4 GPIO[57] (io), D1 GPIO[50] (io), D2 GPIO[51] (io), D3 GPIO[52] (io), D4 GPIO[53] (io), D5 GPIO[56] (io), D9 I2C_GPIO[58] (io), D10 I2C_GPIO[59] (io), D11 O[60] (out), E1 GPIO[47] (io), E4 GPIO[49] (io), E5 GPIO[48] (io), F2 GPIO[45] (io), F3 GPIO[44] (io), F4 GPIO[41] (io), F5 GPIO[46] (io), F7 GPIO[2] (io), F8 GPIO[5] (io), F9 GPIO[1] (io), F10 GPIO[0] (io), G2 GPIO[42] (io), G3 GPIO[43] (io), G4 GPIO[30] (io), G5 GPIO[25] (io), G6 GPIO[22] (io), G7 GPIO[21] (io), G8 GPIO[15] (io), G9 GPIO[4] (io), G10 GPIO[3] (io), H2 GPIO[39] (io), H3 GPIO[40] (io), H4 GPIO[31] (io), H5 GPIO[29] (io), H6 GPIO[26] (io), H7 GPIO[20] (io), H8 GPIO[24] (io), H9 GPIO[7] (io), H10 GPIO[6] (io), J1 GPIO[38] (io), J2 GPIO[36] (io), J3 GPIO[37] (io), J4 GPIO[34] (io), J5 GPIO[28] (io), J6 GPIO[16] (io), J7 GPIO[19] (io), J8 GPIO[14] (io), J9 GPIO[9] (io), J10 GPIO[8] (io), K1 GPIO[35] (io), K2 GPIO[33] (io), K5 GPIO[27] (io), K6 GPIO[23] (io), K7 GPIO[18] (io), K8 GPIO[17] (io), K9 GPIO[13] (io), K10 GPIO[12] (io), K11 GPIO[10] (io), L4 GPIO[32] (io), L10 GPIO[11] (io)
part B pins: A3 SSRXM (in), A4 SSRXP (in), A5 SSTXP (out), A6 SSTXM (out), A9 DP (io), A10 DM (io), A11 NC, B2 FSLC[0] (in), B3 R_USB3, B4 FSLC[1] (in), B11 TRST# (in), C5 RESET# (in), C6 XTALIN, C7 XTALOUT, C8 R_USB2, C9 OTG_ID (in), C10 TDO (out), D6 CLKIN_32 (in), D7 CLKIN (in), E6 FSLC[2] (in), E7 TDI (in), E8 TMS (in), E10 VBATT (power), E11 VBUS (power), F6 TCK (in), L8 INT# (io)
part C pins: A1 U3VSSQ (power), A2 U3RXVDDQ (power), A7 AVDD (power), A8 VSS (power), B1 VIO4 (power), B5 U3TXVDDQ (power), B6 CVDDQ (power), B7 AVSS (power), B8 VSS (power), B9 VSS (power), B10 VDD (power), C3 VDD (power), C11 VIO5 (power), D8 VSS (power), E2 VSS (power), E3 VIO3 (power), E9 VDD (power), F1 VIO2 (power), F11 VDD (power), G1 VSS (power), G11 VSS (power), H1 VDD (power), H11 VIO1 (power), J11 VDD (power), K3 VSS (power), K4 VSS (power), L1 VSS (power), L2 VSS (power), L3 VSS (power), L5 VDD (power), L6 VSS (power), L7 VDD (power), L9 VIO1 (power), L11 VSS (power)

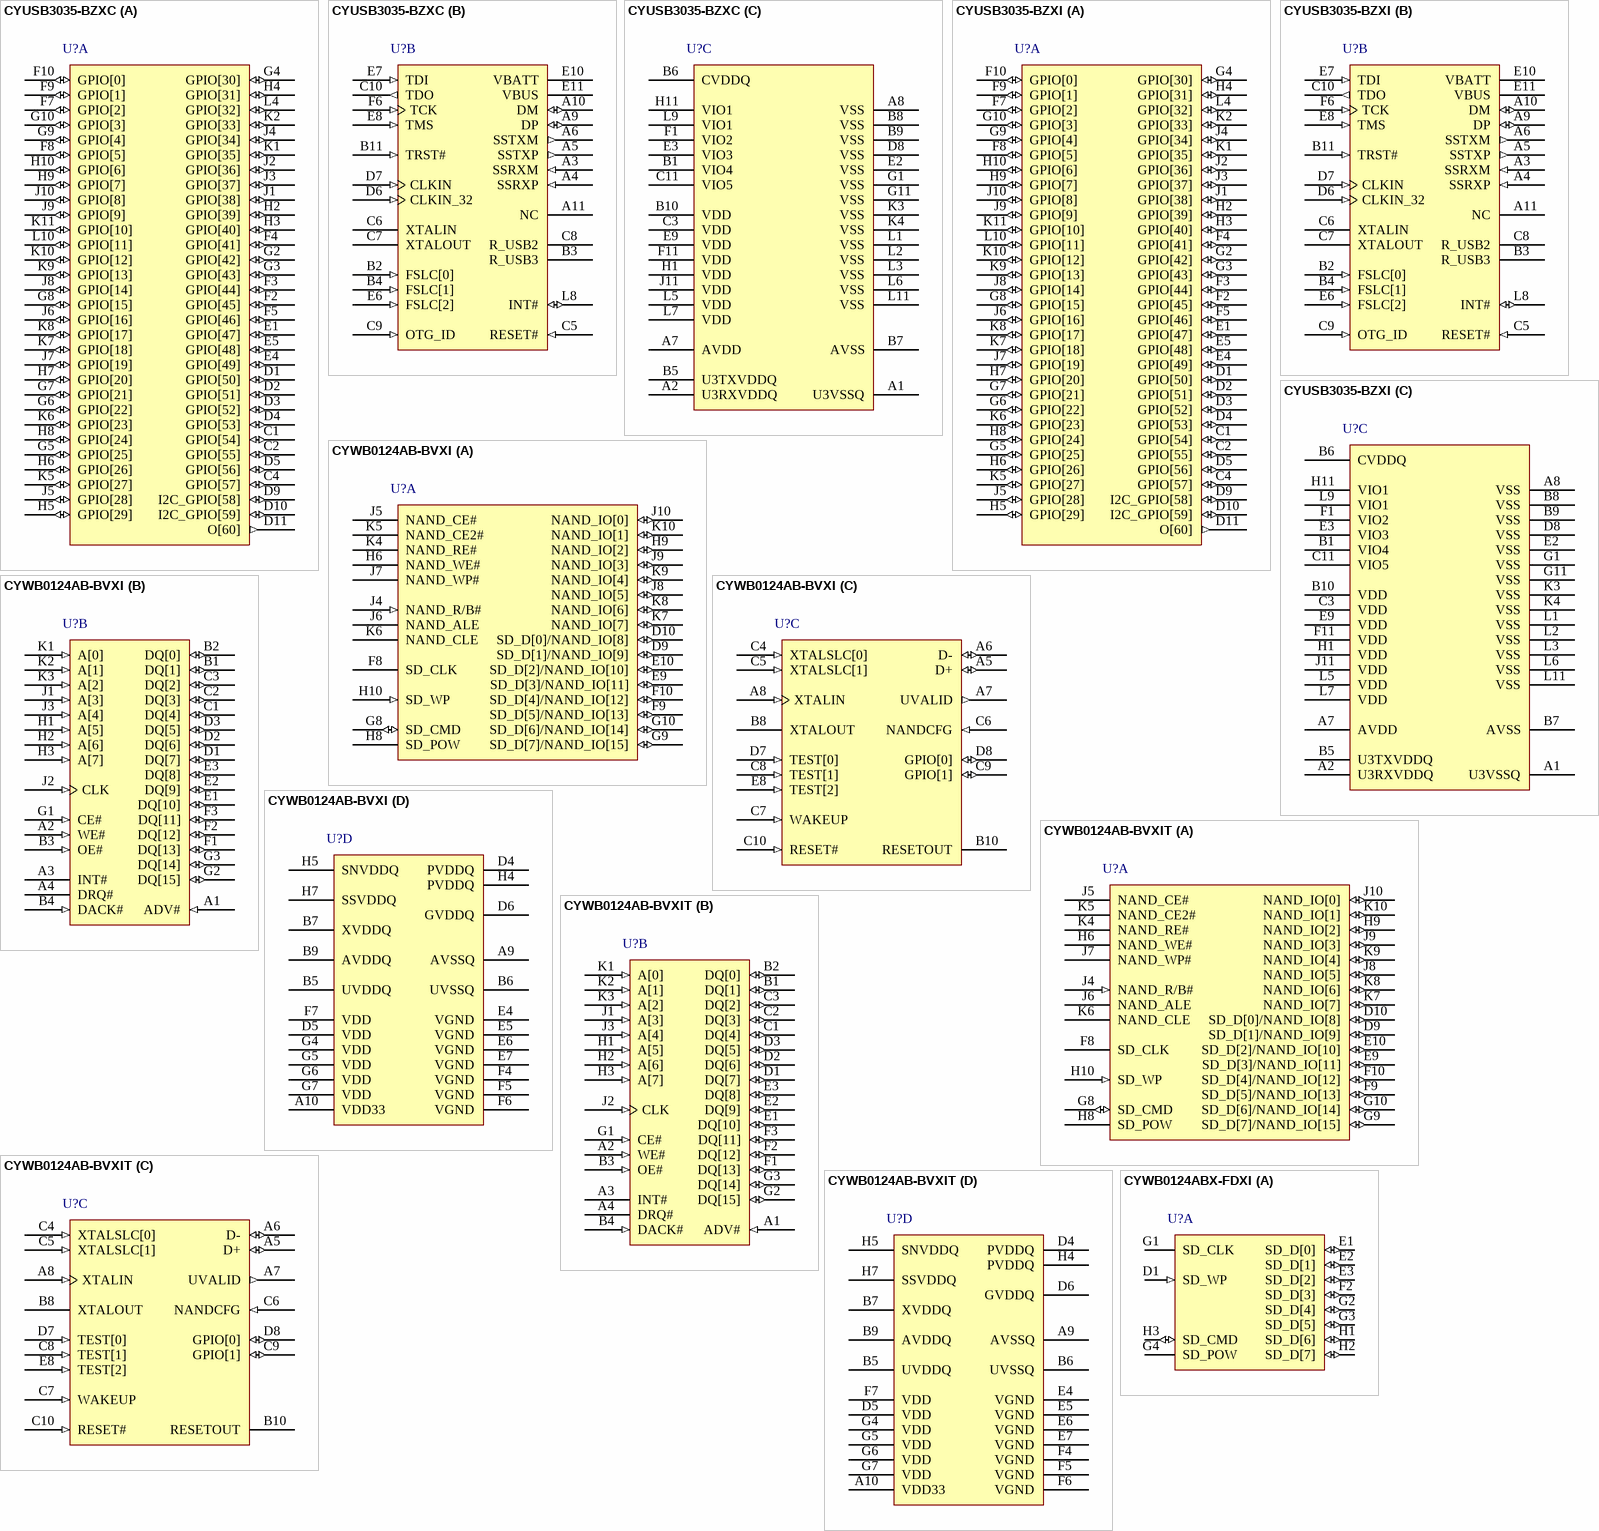
[diagram p17: symbols CYUSB3035-BZXC to CYWB0124ABX-FDXI]

## CYUSB3035-BZXC
designator U?
EZ-USB(R) FX3S SuperSpeed USB Controller, 512 KB, 60 I/Os, 0 to 70 degC, 121-Pin FBGA (BZX121), Tube; Manufacturer: Cypress; PartNumber: CYUSB3035-BZXC; CPU Core: ARM926 EJ-S; Max. Operating Voltage (V): 1.25; Memory Architecture: SRAM; Memory Size (KB): 512; Min. Operating Voltage (V): 1.15; No. of I/Os: 60; DatasheetVersion: Rev. *C; PackageVersion: Rev. *D; PackageReference: BZX121; PackageDescription: 121-Ball FBGA, Body 10 x 10 mm, Pitch 0.8 mm; Supplier 1: Digi-Key; Supplier Part Number 1: CYUSB3035-BZXC-ND; Supplier 2: Newark; Supplier Part Number 2: 24X0906; Supplier 3: Mouser; Supplier Part Number 3: 727-CYUSB3035-BZXC; Max. Operating Temp. (degreesC): 70; Min. Operating Temp. (degreesC): 0; Packing: Tube; RoHS: Pb-Free; Mounting Technology: Surface Mount; Code_JEDEC: PUB 95; ComponentLink1Description: Manufacturer URL; ComponentLink1URL: http://www.cypress.com/; ComponentLink2Description: Datasheet; ComponentLink2URL: http://www.cypress.com/?docID=45991; ComponentLink3Description: Package Specification; ComponentLink3URL: http://www.cypress.com/?docID=45795
footprint CYP-BZX121 (BGA, 121-Balls, Body 10x10mm, Pitch 0.8mm)
part A pins: C1 GPIO[54] (io), C2 GPIO[55] (io), C4 GPIO[57] (io), D1 GPIO[50] (io), D2 GPIO[51] (io), D3 GPIO[52] (io), D4 GPIO[53] (io), D5 GPIO[56] (io), D9 I2C_GPIO[58] (io), D10 I2C_GPIO[59] (io), D11 O[60] (out), E1 GPIO[47] (io), E4 GPIO[49] (io), E5 GPIO[48] (io), F2 GPIO[45] (io), F3 GPIO[44] (io), F4 GPIO[41] (io), F5 GPIO[46] (io), F7 GPIO[2] (io), F8 GPIO[5] (io), F9 GPIO[1] (io), F10 GPIO[0] (io), G2 GPIO[42] (io), G3 GPIO[43] (io), G4 GPIO[30] (io), G5 GPIO[25] (io), G6 GPIO[22] (io), G7 GPIO[21] (io), G8 GPIO[15] (io), G9 GPIO[4] (io), G10 GPIO[3] (io), H2 GPIO[39] (io), H3 GPIO[40] (io), H4 GPIO[31] (io), H5 GPIO[29] (io), H6 GPIO[26] (io), H7 GPIO[20] (io), H8 GPIO[24] (io), H9 GPIO[7] (io), H10 GPIO[6] (io), J1 GPIO[38] (io), J2 GPIO[36] (io), J3 GPIO[37] (io), J4 GPIO[34] (io), J5 GPIO[28] (io), J6 GPIO[16] (io), J7 GPIO[19] (io), J8 GPIO[14] (io), J9 GPIO[9] (io), J10 GPIO[8] (io), K1 GPIO[35] (io), K2 GPIO[33] (io), K5 GPIO[27] (io), K6 GPIO[23] (io), K7 GPIO[18] (io), K8 GPIO[17] (io), K9 GPIO[13] (io), K10 GPIO[12] (io), K11 GPIO[10] (io), L4 GPIO[32] (io), L10 GPIO[11] (io)
part B pins: A3 SSRXM (in), A4 SSRXP (in), A5 SSTXP (out), A6 SSTXM (out), A9 DP (io), A10 DM (io), A11 NC, B2 FSLC[0] (in), B3 R_USB3, B4 FSLC[1] (in), B11 TRST# (in), C5 RESET# (in), C6 XTALIN, C7 XTALOUT, C8 R_USB2, C9 OTG_ID (in), C10 TDO (out), D6 CLKIN_32 (in), D7 CLKIN (in), E6 FSLC[2] (in), E7 TDI (in), E8 TMS (in), E10 VBATT (power), E11 VBUS (power), F6 TCK (in), L8 INT# (io)
part C pins: A1 U3VSSQ (power), A2 U3RXVDDQ (power), A7 AVDD (power), A8 VSS (power), B1 VIO4 (power), B5 U3TXVDDQ (power), B6 CVDDQ (power), B7 AVSS (power), B8 VSS (power), B9 VSS (power), B10 VDD (power), C3 VDD (power), C11 VIO5 (power), D8 VSS (power), E2 VSS (power), E3 VIO3 (power), E9 VDD (power), F1 VIO2 (power), F11 VDD (power), G1 VSS (power), G11 VSS (power), H1 VDD (power), H11 VIO1 (power), J11 VDD (power), K3 VSS (power), K4 VSS (power), L1 VSS (power), L2 VSS (power), L3 VSS (power), L5 VDD (power), L6 VSS (power), L7 VDD (power), L9 VIO1 (power), L11 VSS (power)

## CYUSB3035-BZXI
designator U?
EZ-USB(R) FX3S SuperSpeed USB Controller, 512 KB, 60 I/Os, -40 to 85 degC, 121-Pin FBGA (BZX121); Manufacturer: Cypress; PartNumber: CYUSB3035-BZXI; CPU Core: ARM926 EJ-S; Max. Operating Voltage (V): 1.25; Memory Architecture: SRAM; Memory Size (KB): 512; Min. Operating Voltage (V): 1.15; No. of I/Os: 60; DatasheetVersion: Rev. *C; PackageVersion: Rev. *D; PackageReference: BZX121; PackageDescription: 121-Ball FBGA, Body 10 x 10 mm, Pitch 0.8 mm; Supplier 1: Digi-Key; Supplier Part Number 1: CYUSB3035-BZXI-ND; Supplier 2: Newark; Supplier Part Number 2: 69W1606; Supplier 3: Mouser; Supplier Part Number 3: 727-CYUSB3035-BZXI; Max. Operating Temp. (degreesC): 85; Min. Operating Temp. (degreesC): -40; RoHS: Pb-Free; Mounting Technology: Surface Mount; Code_JEDEC: PUB 95; ComponentLink1Description: Manufacturer URL; ComponentLink1URL: http://www.cypress.com/; ComponentLink2Description: Datasheet; ComponentLink2URL: http://www.cypress.com/?docID=45991; ComponentLink3Description: Package Specification; ComponentLink3URL: http://www.cypress.com/?docID=45795
footprint CYP-BZX121 (BGA, 121-Balls, Body 10x10mm, Pitch 0.8mm)
part A pins: C1 GPIO[54] (io), C2 GPIO[55] (io), C4 GPIO[57] (io), D1 GPIO[50] (io), D2 GPIO[51] (io), D3 GPIO[52] (io), D4 GPIO[53] (io), D5 GPIO[56] (io), D9 I2C_GPIO[58] (io), D10 I2C_GPIO[59] (io), D11 O[60] (out), E1 GPIO[47] (io), E4 GPIO[49] (io), E5 GPIO[48] (io), F2 GPIO[45] (io), F3 GPIO[44] (io), F4 GPIO[41] (io), F5 GPIO[46] (io), F7 GPIO[2] (io), F8 GPIO[5] (io), F9 GPIO[1] (io), F10 GPIO[0] (io), G2 GPIO[42] (io), G3 GPIO[43] (io), G4 GPIO[30] (io), G5 GPIO[25] (io), G6 GPIO[22] (io), G7 GPIO[21] (io), G8 GPIO[15] (io), G9 GPIO[4] (io), G10 GPIO[3] (io), H2 GPIO[39] (io), H3 GPIO[40] (io), H4 GPIO[31] (io), H5 GPIO[29] (io), H6 GPIO[26] (io), H7 GPIO[20] (io), H8 GPIO[24] (io), H9 GPIO[7] (io), H10 GPIO[6] (io), J1 GPIO[38] (io), J2 GPIO[36] (io), J3 GPIO[37] (io), J4 GPIO[34] (io), J5 GPIO[28] (io), J6 GPIO[16] (io), J7 GPIO[19] (io), J8 GPIO[14] (io), J9 GPIO[9] (io), J10 GPIO[8] (io), K1 GPIO[35] (io), K2 GPIO[33] (io), K5 GPIO[27] (io), K6 GPIO[23] (io), K7 GPIO[18] (io), K8 GPIO[17] (io), K9 GPIO[13] (io), K10 GPIO[12] (io), K11 GPIO[10] (io), L4 GPIO[32] (io), L10 GPIO[11] (io)
part B pins: A3 SSRXM (in), A4 SSRXP (in), A5 SSTXP (out), A6 SSTXM (out), A9 DP (io), A10 DM (io), A11 NC, B2 FSLC[0] (in), B3 R_USB3, B4 FSLC[1] (in), B11 TRST# (in), C5 RESET# (in), C6 XTALIN, C7 XTALOUT, C8 R_USB2, C9 OTG_ID (in), C10 TDO (out), D6 CLKIN_32 (in), D7 CLKIN (in), E6 FSLC[2] (in), E7 TDI (in), E8 TMS (in), E10 VBATT (power), E11 VBUS (power), F6 TCK (in), L8 INT# (io)
part C pins: A1 U3VSSQ (power), A2 U3RXVDDQ (power), A7 AVDD (power), A8 VSS (power), B1 VIO4 (power), B5 U3TXVDDQ (power), B6 CVDDQ (power), B7 AVSS (power), B8 VSS (power), B9 VSS (power), B10 VDD (power), C3 VDD (power), C11 VIO5 (power), D8 VSS (power), E2 VSS (power), E3 VIO3 (power), E9 VDD (power), F1 VIO2 (power), F11 VDD (power), G1 VSS (power), G11 VSS (power), H1 VDD (power), H11 VIO1 (power), J11 VDD (power), K3 VSS (power), K4 VSS (power), L1 VSS (power), L2 VSS (power), L3 VSS (power), L5 VDD (power), L6 VSS (power), L7 VDD (power), L9 VIO1 (power), L11 VSS (power)

## CYWB0124AB-BVXI
designator U?
West Bridge(R) Antioch(TM) USB and Mass Storage Peripheral Controller, -40 to 85 degC, 100-Pin VFBGA (BVX100), Tray; Manufacturer: Cypress; PartNumber: CYWB0124AB-BVXI; Max. Operating Voltage (V): 3.3; Min. Operating Voltage (V): 1.8; DatasheetVersion: Rev. *M; PackageVersion: Rev. *D; PackageReference: BVX100; PackageDescription: 100-Ball Fine-Pitch Ball Grid Array, Body 6 x 6 mm, Pitch 0.50 mm; Supplier 1: Digi-Key; Supplier Part Number 1: CYWB0124AB-BVXI-ND; Supplier 2: Mouser; Supplier Part Number 2: 727-CYWB0124ABBVXI; Max. Operating Temp. (degreesC): 85; Min. Operating Temp. (degreesC): -40; Packing: Tray; RoHS: Pb-Free; Mounting Technology: Surface Mount; ComponentLink1Description: Manufacturer URL; ComponentLink1URL: http://www.cypress.com/; ComponentLink2Description: Datasheet; ComponentLink2URL: http://www.cypress.com/?docID=46966; ComponentLink3Description: Package Specification; ComponentLink3URL: http://www.cypress.com/?docID=46966
footprint CYP-BVX100 (BGA, 100-Balls, Body 6x6mm, Pitch 0.5mm)
part A pins: D9 SD_D[1]/NAND_IO[9] (io) "Serve as SD_D[1] for SD port or NAND_IO[9] for NAND Upper I/O port depending on NANDCFG selection. NAND configuration is not available in WLCSP.", D10 SD_D[0]/NAND_IO[8] (io) "Serve as SD_D[0] for SD port or NAND_IO[8] for NAND Upper I/O port depending on NANDCFG selection. NAND configuration is not available in WLCSP.", E9 SD_D[3]/NAND_IO[11] (io) "Serve as SD_D[3] for SD port or NAND_IO[11] for NAND Upper I/O port depending on NANDCFG selection. NAND configuration is not available in WLCSP.", E10 SD_D[2]/NAND_IO[10] (io) "Serve as SD_D[2] for SD port or NAND_IO[10] for NAND Upper I/O port depending on NANDCFG selection. NAND configuration is not available in WLCSP.", F8 SD_CLK (hiz) "Clock output for the SD interface. Frequency is changed and clock is disabled through firmware control.", F9 SD_D[5]/NAND_IO[13] (io) "Serve as SD_D[5] for SD port or NAND_IO[13] forNAND Upper I/O port depending on NANDCFG selection. NAND configuration is not available in WLCSP.", F10 SD_D[4]/NAND_IO[12] (io) "Serve as SD_D[4] for SD port or NAND_IO[12] for NAND Upper I/O port depending on NANDCFG selection. NAND configuration is not available in WLCSP.", G8 SD_CMD (io) "SD Command/Response Ball.", G9 SD_D[7]/NAND_IO[15] (io) "Serve as SD_D[7] for SD port or NAND_IO[15] for NAND Upper I/O port depending on NANDCFG selection. NAND configuration is not available in WLCSP.", G10 SD_D[6]/NAND_IO[14] (io) "Serve as SD_D[6] for SD port or NAND_IO[14] for NAND Upper I/O port depending on NANDCFG selection. NAND configuration is not available in WLCSP.", H6 NAND_WE# (hiz) "NAND Write Enable. Active LOW.", H8 SD_POW (hiz) "SD Power Control. This GPIO is used to control SD/MMC card power FET if present. HIGH indicates on, LOW indicates off.", H9 NAND_IO[2] (io) "NAND_IO[2] for NAND Upper I/O port", H10 SD_WP (in) "SD Write Protection Detection. Connected to GPIO for firmware detection. HIGH indicates that the device connected to the SD port has write protect enabled.", J4 NAND_R/B# (in) "NAND Ready/Busy. NAND output is Open Drain. Active LOW.", J5 NAND_CE# (hiz) "NAND Chip Enable. Active LOW.", J6 NAND_ALE (hiz) "NAND Address Latch Enable.", J7 NAND_WP# (hiz) "NAND Write Protect. Active LOW.", J8 NAND_IO[5] (io) "NAND_IO[5] for NAND Upper I/O port", J9 NAND_IO[3] (io) "NAND_IO[3] for NAND Upper I/O port", J10 NAND_IO[0] (io) "NAND_IO[0] for NAND Upper I/O port", K4 NAND_RE# (hiz) "NAND Read Enable. Active LOW.", K5 NAND_CE2# (hiz) "NAND Chip Enable 2. Allows to access the second NAND device. Active LOW.", K6 NAND_CLE (hiz) "NAND Command Latch Enable.", K7 NAND_IO[7] (io) "NAND_IO[7] for NAND Upper I/O port", K8 NAND_IO[6] (io) "NAND_IO[6] for NAND Upper I/O port", K9 NAND_IO[4] (io) "NAND_IO[4] for NAND Upper I/O port", K10 NAND_IO[1] (io) "NAND_IO[1] for NAND Upper I/O port"
part B pins: A1 ADV# (in) "Address Valid for P-port. Valid during asynchronous mode. ADV# deassertion causes to latch the address.", A2 WE# (in) "Write Enable. Signals a read (HIGH) or write (LOW) access cycle.", A3 INT# (hiz) "Interrupt Request. Assertion indicates that aninterrupt event has occurred. Active LOW.", A4 DRQ# (hiz) "DMA Request. Assertion indicates to Processor that it is ready to read or write one or more endpoints. It reflects register CY_AN_MEM_P0_DRQ EPnDRQ assertions. Active LOW or HIGH (programmable).", B1 DQ[1] (io) "Bit 1 of Data Bus for P-port", B2 DQ[0] (io) "Bit 0 of Data Bus for P-port", B3 OE# (in) "Output Enable. Controls the data bus output drive. Ignored during write cycle. Active LOW.", B4 DACK# (in) "DMA Acknowledgement. Assertion indicates DMA acknowledgement from processor. Is configured in ACK mode (asserted throughout DMA transfer) or EOB mode (pulsed at end of DMA transfer). Active LOW or HIGH (program-mable).", C1 DQ[4] (io) "Bit 4 of Data Bus for P-port", C2 DQ[3] (io) "Bit 3 of Data Bus for P-port", C3 DQ[2] (io) "Bit 2 of Data Bus for P-port", D1 DQ[7] (io) "Bit 7 of Data Bus for P-port", D2 DQ[6] (io) "Bit 6 of Data Bus for P-port", D3 DQ[5] (io) "Bit 5 of Data Bus for P-port", E1 DQ[10] (io) "Bit 10 of Data Bus for P-port", E2 DQ[9] (io) "Bit 9 of Data Bus for P-port", E3 DQ[8] (io) "Bit 8 of Data Bus for P-port", F1 DQ[13] (io) "Bit 13 of Data Bus for P-port", F2 DQ[12] (io) "Bit 12 of Data Bus for P-port", F3 DQ[11] (io) "Bit 11 of Data Bus for P-port", G1 CE# (in) "Chip Select for P-port. Active LOW", G2 DQ[15] (io) "Bit 15 of Data Bus for P-port", G3 DQ[14] (io) "Bit 14 of Data Bus for P-port", H1 A[5] (in) "Bit 5 of Address Bus for P-port", H2 A[6] (in) "Bit 6 of Address Bus for P-port", H3 A[7] (in) "Bit 7 of Address Bus for P-port", J1 A[3] (in) "Bit 3 of Address Bus for P-port", J2 CLK (in) "Clock for P-port", J3 A[4] (in) "Bit 4 of Address Bus for P-port", K1 A[0] (in) "Bit 0 of Address Bus for P-port", K2 A[1] (in) "Bit 1 of Address Bus for P-port", K3 A[2] (in) "Bit 2 of Address Bus for P-port"
part C pins: A5 D+ (io) "USB D+", A6 D- (io) "USB D-", A7 UVALID (out) "External USB Switch Control. Reflects value of register CY_AN_MEM_PMU_UPDATE.UVALID.", A8 XTALIN (in) "Input for either crystal or clock signal. XVDDQ is 3.3 V for crystal input; XVDDQ is 1.8 V for clock input.", B8 XTALOUT "Output to connect to feedback input of crystal. Is leftfloating when external clock at XTALIN.", B10 RESETOUT (hiz) "Reset Out. Deasserted LOW when RESET# is asserted LOW. Asserted HIGH after RESET# is deasserted and initialization is complete. Reflectsvalue of RSTCMPT bit.", C4 XTALSLC[0] (in) "Clock Select. For CYWB0124AB, XTALSLC[1:0] is decoded as: 00 = 19.2 MHz, 01 = 24 MHz, 10 = 48 MHz, 11 = 26 MHz.", C5 XTALSLC[1] (in) "Clock Select. For CYWB0124AB, XTALSLC[1:0] is decoded as: 00 = 19.2 MHz, 01 = 24 MHz, 10 = 48 MHz, 11 = 26 MHz.", C6 NANDCFG (in) "S-port Configuration. '0' selects 8-bit NAND andSD/MMC configuration. '1' selects 16-bit NAND configuration.", C7 WAKEUP (in) "Wake Up Signal. 1 = normal operation, 0 = low power“sleep” mode. Is asserted for Antioch to initialize.", C8 TEST[1] (in) "Test mode selection. Is tied to VGND for normal operation (CMOS level inputs).", C9 GPIO[1] (io) "General purpose input/output.", C10 RESET# (in) "Reset. Asserted to place Antioch into reset mode and subsequent initialization. Active LOW.", D7 TEST[0] (in) "Test mode selection. Is tied to VGND for normal operation (CMOS level inputs).", D8 GPIO[0] (io) "General purpose input/output.GPIO[0] is used for SD Card Detect with firmware detection. LOW indicates card is inserted.", E8 TEST[2] (in) "Test mode selection. Is tied to VGND for normal operation (CMOS level inputs)."
part D pins: A9 AVSSQ (power) "Ground for PLL.", A10 VDD33 (power) "Power sequence control supply. 3.3 V nominal.", B5 UVDDQ (power) "Power for USB I/O. 3.3 V nominal.", B6 UVSSQ (power) "Ground for all USB.", B7 XVDDQ (power) "Power for crystal or clock I/O. 1.8 V (clock) or 3.3 V (crystal) nominal.", B9 AVDDQ (power) "Power for internal PLL and USB serializer. 1.8 V nominal.", D4 PVDDQ (power) "Power for P-port I/O. 1.8 V, 2.5 V, or 3.3 V nominal.", D5 VDD (power) "Power for core. 1.8 V nominal.", D6 GVDDQ (power) "Power for miscellaneous I/O. 1.8 V, 2.5 V, or 3.3 V nominal.", E4 VGND (power) "Ground for core.", E5 VGND (power) "Ground for core.", E6 VGND (power) "Ground for core.", E7 VGND (power) "Ground for core.", F4 VGND (power) "Ground for core.", F5 VGND (power) "Ground for core.", F6 VGND (power) "Ground for core.", F7 VDD (power) "Power for core. 1.8 V nominal.", G4 VDD (power) "Power for core. 1.8 V nominal.", G5 VDD (power) "Power for core. 1.8 V nominal.", G6 VDD (power) "Power for core. 1.8 V nominal.", G7 VDD (power) "Power for core. 1.8 V nominal.", H4 PVDDQ (power) "Power for P-port I/O. 1.8 V, 2.5 V, or 3.3 V nominal.", H5 SNVDDQ (power) "Power for NAND port I/O. 1.8 V, 2.5 V, or 3.3 V nominal.", H7 SSVDDQ (power) "Power for SD port, is connected to SNVDDQ if using 16-bit NAND. 1.8 V, 2.5 V, or 3.3 V nominal."